# Altium footprint library AMPLH7020S.PcbLib: 1 footprints
Each footprint in its own frame and in the unit in brackets; x right, y up, seen from the top. Pads: shape width x height; smd on the part's side, far side on the other; paste and mask are expansions set on the pad; w line width, h text height; cw(c..) or ccw(c..) is an arc to the next point about the centre after c.
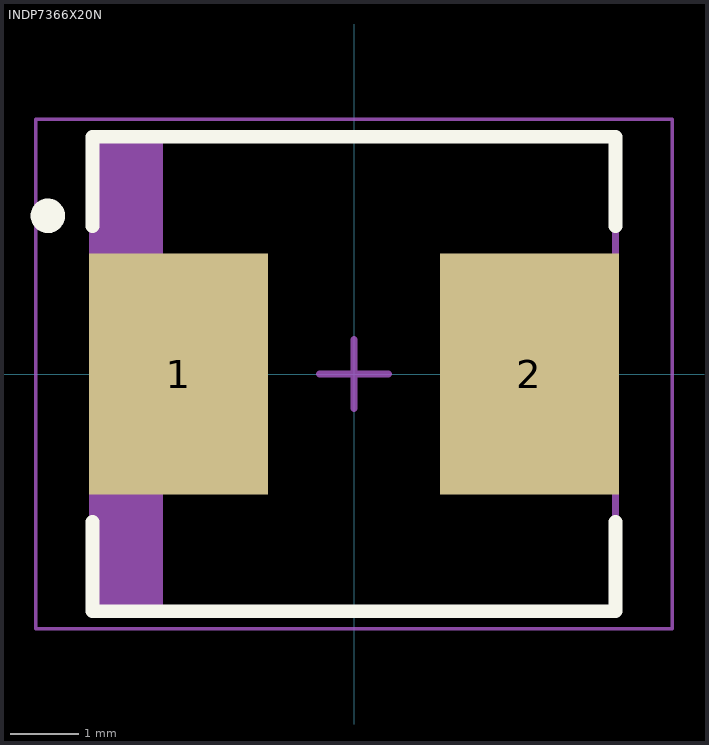
[diagram p0: the footprint, top view; thin cyan lines are the x and y axes]

## INDP7366X20N [mm] "Precision Wire Wound Inductor, 2-Leads, Body 7,30x6,60mm, IPC Medium Density"
height 2
pads (2):
  rect 2.6x3.5 smd: 1(-2.55,0) 2(2.55,0)
Top Overlay:
  circle w0.25: c-4.45,2.3 r0.125
  lines w0.2: -3.8,-2.15 -3.8,-3.45 3.8,-3.45 3.8,-2.15 ; -3.8,2.15 -3.8,3.45 3.8,3.45 3.8,2.15
Mechanical 13:
  rectangle: -3.8,-3.45 -2.778,3.45
  lines w0.1: -3.8,-3.45 3.8,-3.45 3.8,3.45 -3.8,3.45 -3.8,-3.45
Mechanical 15:
  lines w0.05: -4.625,-3.7 4.625,-3.7 4.625,3.7 -4.625,3.7 -4.625,-3.7
  lines w0.1: -0.5,0 0.5,0 ; 0,-0.5 0,0.5
3D body: height 2.11, standoff 0.11, extent -3.805,-3.302 3.805,3.302
3D body "INDP7366X20N.step": height 2.1, standoff 0, extent -3.75,-3.3 3.75,3.3